# Altium footprint library SAMTEC_STMM-107-02-L-D.PcbLib: 1 footprints
Each footprint in its own frame and in the unit in brackets; x right, y up, seen from the top. Pads: shape width x height; smd on the part's side, far side on the other; paste and mask are expansions set on the pad; w line width, h text height; cw(c..) or ccw(c..) is an arc to the next point about the centre after c.
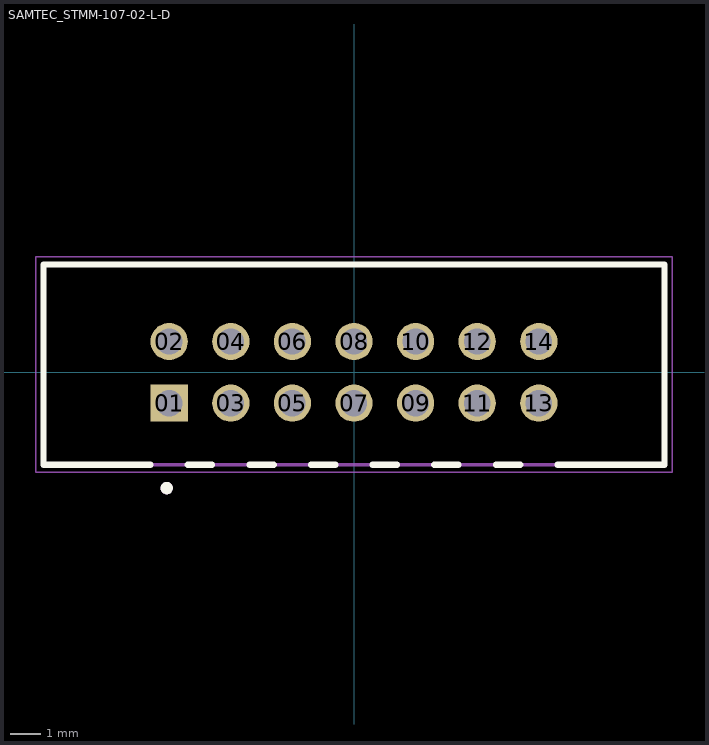
[diagram p0: the footprint, top view; thin cyan lines are the x and y axes]

## SAMTEC_STMM-107-02-L-D [mm]
pads (14):
  rect 1.21x1.21 hole 0.86: 01(-6,-1)
  round 1.21 hole 0.86: 02(-6,1) 03(-4,-1) 04(-4,1) 05(-2,-1) 06(-2,1) 07(0,-1) 08(0,1) 09(2,-1) 10(2,1) 11(4,-1) 12(4,1) 13(6,-1) 14(6,1)
Top Overlay:
  circle w0.2: c-6.08,-3.76 r0.1
  lines w0.2: -6.605,-3 -10.08,-3 -10.08,3.5 10.08,3.5 10.08,-3 6.605,-3 ; -5.395,-3 -4.605,-3 ; -3.395,-3 -2.605,-3 ; -1.395,-3 -0.605,-3 ; 0.605,-3 1.395,-3 ; 2.605,-3 3.395,-3 ; 4.605,-3 5.395,-3
Top Paste:
  drawing of 14 lines, arcs and shapes, not listed
Mechanical 13:
  circle w0.2: c-6.08,-3.76 r0.1
  lines w0.1: -10.08,-3 10.08,-3 10.08,3.5 -10.08,3.5 -10.08,-3
Mechanical 15:
  lines w0.05: -10.33,-3.25 10.33,-3.25 10.33,3.75 -10.33,3.75 -10.33,-3.25
3D body "STMM-107-02-L-D.stp": height 4.83, standoff -2.97, extent -10.081,-3.015 10.081,3.523